# Altium footprint library Arriquitaun.PcbLib: 24 footprints (part 2 of 2)
Each footprint in its own frame and in the unit in brackets; x right, y up, seen from the top. Pads: shape width x height; smd on the part's side, far side on the other; paste and mask are expansions set on the pad; w line width, h text height; cw(c..) or ccw(c..) is an arc to the next point about the centre after c.
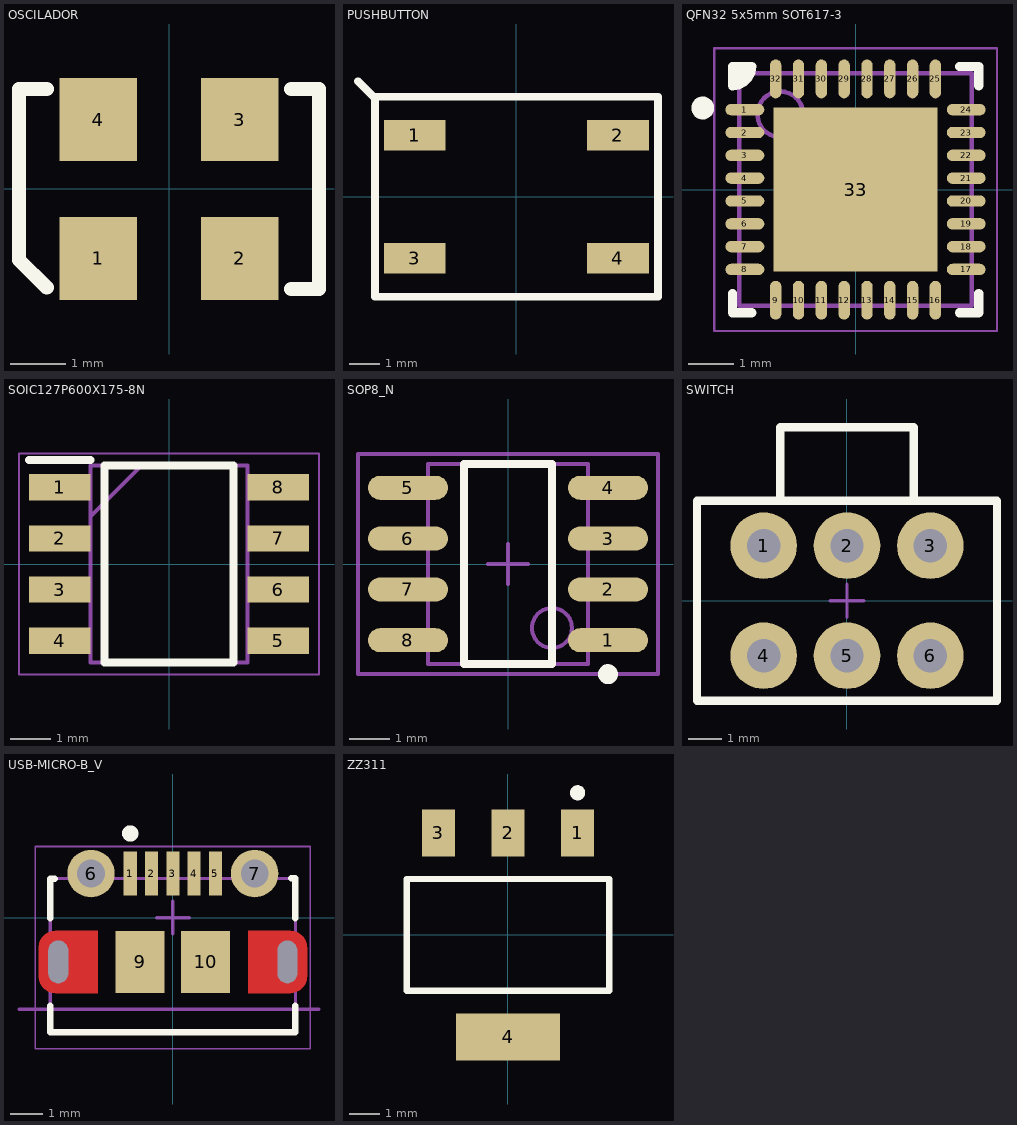
[diagram p1: the footprints below, top view; thin cyan lines are the x and y axes]

## OSCILADOR [mm]
height 1.5
pads (4):
  rect 1.4x1.5 smd mask+0.001: 1(-1.275,-1.25) 2(1.275,-1.25) 3(1.275,1.25) 4(-1.275,1.25)
Top Overlay:
  lines w0.254: -2.2,-1.775 -2.7,-1.275 -2.7,1.8 -2.2,1.8 ; 2.2,-1.8 2.7,-1.8 2.7,1.8 2.2,1.8

## PUSHBUTTON [mm]
height 3
pads (4):
  rect 2x1 smd: 1(-3.3,2) 2(3.3,2) 3(-3.3,-2) 4(3.3,-2)
Top Overlay:
  lines w0.254: -5.15,3.75 -4.6,3.2 -4.6,-3.25 4.6,-3.25 4.6,3.25 -4.6,3.25
3D body: height 5, standoff 3, extent -1.984,-1.996 2,1.996
3D body: height 3, standoff 0, extent -3.3,-3.25 3.3,3.25

## QFN32 5x5mm SOT617-3 [mm] "HVQFN, 32-Leads, Body 5.00x5.00mm, Pitch 0.50mm, Thermal Pad 3.60x3.60mm, IPC Medium Density"
height 0.85
pads (33):
  oval 0.85x0.25 smd: 1(-2.425,1.75) 2(-2.425,1.25) 3(-2.425,0.75) 4(-2.425,0.25) 5(-2.425,-0.25) 6(-2.425,-0.75) 7(-2.425,-1.25) 8(-2.425,-1.75) 17(2.425,-1.75) 18(2.425,-1.25) 19(2.425,-0.75) 20(2.425,-0.25) 21(2.425,0.25) 22(2.425,0.75) 23(2.425,1.25) 24(2.425,1.75)
  oval 0.25x0.85 smd: 9(-1.75,-2.425) 10(-1.25,-2.425) 11(-0.75,-2.425) 12(-0.25,-2.425) 13(0.25,-2.425) 14(0.75,-2.425) 15(1.25,-2.425) 16(1.75,-2.425) 25(1.75,2.425) 26(1.25,2.425) 27(0.75,2.425) 28(0.25,2.425) 29(-0.25,2.425) 30(-0.75,2.425) 31(-1.25,2.425) 32(-1.75,2.425)
  rect 3.6x3.6 smd: 33(0,0)
Top Overlay:
  circle w0.25: c-3.35,1.788 r0.125
  region: -2.7,2.7 -2.275,2.7 -2.275,2.551 -2.551,2.275 -2.7,2.275
  lines w0.2: -2.7,-2.275 -2.7,-2.7 -2.275,-2.7 ; 2.275,-2.7 2.7,-2.7 2.7,-2.275 ; 2.275,2.7 2.7,2.7 2.7,2.275 ; -2.7,2.275 ccw(c-2.7,2.7) -2.275,2.7 -2.7,2.7 -2.7,2.275
Mechanical 13:
  circle w0.1: c-1.65,1.65 r0.5
  lines w0.1: -2.55,-2.55 -2.55,2.55 2.55,2.55 2.55,-2.55 -2.55,-2.55
Mechanical 15:
  lines w0.05: -3.1,-3.1 -3.1,3.1 3.1,3.1 3.1,-3.1 -3.1,-3.1
  lines w0.1: -0.5,0 0.5,0 ; 0,-0.5 0,0.5
3D body: height 0.85, standoff 0, extent -2.55,-2.55 2.55,2.55

## SOIC127P600X175-8N [mm]
pads (8):
  rect 1.525x0.65 smd: 1(-2.712,1.905) 2(-2.712,0.635) 3(-2.712,-0.635) 4(-2.712,-1.905) 5(2.712,-1.905) 6(2.712,-0.635) 7(2.712,0.635) 8(2.712,1.905)
Top Overlay:
  lines w0.2: -3.475,2.58 -1.95,2.58 ; -1.6,-2.45 -1.6,2.45 1.6,2.45 1.6,-2.45 -1.6,-2.45
Mechanical 13:
  lines w0.1: -1.95,1.18 -0.68,2.45 ; -1.95,-2.45 -1.95,2.45 1.95,2.45 1.95,-2.45 -1.95,-2.45
Mechanical 15:
  lines w0.05: -3.725,-2.75 -3.725,2.75 3.725,2.75 3.725,-2.75 -3.725,-2.75
3D body "NE555DR.stp": height 1.75, standoff 0, extent -3,-2.45 3,2.45

## SOP8_N [mm] "SOIC, 8-Leads, Body 4.9x3.9mm, Pitch 1.27mm, IPC Medium Density"
height 1.75
pads (8):
  oval 2x0.6 smd: 1(2.5,-1.905) 2(2.5,-0.635) 3(2.5,0.635) 4(2.5,1.905) 5(-2.5,1.905) 6(-2.5,0.635) 7(-2.5,-0.635) 8(-2.5,-1.905)
Top Overlay:
  circle w0.25: c2.5,-2.755 r0.125
  lines w0.2: -1.1,-2.5 -1.1,2.5 1.1,2.5 1.1,-2.5 -1.1,-2.5
Mechanical 13:
  circle w0.1: c1.1,-1.6 r0.5
  lines w0.1: -2,-2.5 -2,2.5 2,2.5 2,-2.5 -2,-2.5
Mechanical 15:
  lines w0.1: -0.5,0 0.5,0 ; 0,-0.5 0,0.5 ; -3.75,-2.75 -3.75,2.75 3.75,2.75 3.75,-2.75 -3.75,-2.75
3D body: height 1.75, standoff 0, extent -2,-2.5 2,2.5

## SWITCH [mm]
pads (6):
  round 2 hole 1: 1(-2.5,1.65) 2(0,1.65) 3(2.5,1.65) 4(-2.5,-1.65) 5(0,-1.65) 6(2.5,-1.65)
Top Overlay:
  lines w0.254: -2,3 -2,5.2 2,5.2 2,3 ; -4.5,-3 4.5,-3 4.5,3 -4.5,3 -4.5,-3
Mechanical 15:
  lines w0.1: -0.5,0 0.5,0 ; 0,-0.5 0,0.5
3D body: height 3, standoff 1.5, extent -1.8,3 -0.3,5
3D body: height 3.5, standoff 0, extent -4.5,-3 4.5,3

## USB-MICRO-B_V [mm] "USB, MICRO B, Body 7.491x4.695 mm, Pitch 0.65 mm"
height 2.673
pads (11):
  rect 0.4x1.35 smd: 1(-1.3,1.35) 2(-0.65,1.35) 3(0,1.35) 4(0.65,1.35) 5(1.3,1.35)
  round 1.45 hole 0.85: 6(-2.5,1.35) 7(2.5,1.35)
  rrect50% 0x0 hole 0.6 slot 1.3 at 90 deg: 8(-3.5,-1.35) 11(3.5,-1.35)
  rect 1.5x1.9 smd: 9(-1,-1.35) 10(1,-1.35)
Top Layer:
  region: -3.6,-1.8 -3.6,-0.9 -4.1,-0.9 -4.1,-1.8
  region: -2.3,-2.3 -2.3,-0.4 -3.6,-0.4 -3.6,-2.3
  region: 3.6,-0.9 3.6,-1.8 4.1,-1.8 4.1,-0.9
  region: 2.3,-0.4 2.3,-2.3 3.6,-2.3 3.6,-0.4
  lines w0.5: -3.85,-1.8 ccw(c-3.6,-1.8) -3.432,-1.985 ccw(c-3.6,-1.8) -3.85,-1.8 ; -3.85,-0.9 ccw(c-3.6,-0.9) -3.378,-1.015 ccw(c-3.6,-0.9) -3.85,-0.9 ; 3.35,-1.8 ccw(c3.6,-1.8) 3.432,-1.985 ccw(c3.6,-1.8) 3.35,-1.8 ; 3.35,-0.9 ccw(c3.6,-0.9) 3.473,-1.115 ccw(c3.6,-0.9) 3.5,-1.129 ccw(c3.6,-0.9) 3.5,-0.671 ccw(c3.6,-0.9) 3.35,-0.889 ccw(c3.6,-0.9) 3.35,-0.9
Top Overlay:
  circle w0.25: c-1.3,2.575 r0.125
  lines w0.2: -3.745,-2.688 -3.745,-3.5 3.745,-3.5 3.745,-2.688 ; -3.745,-0.012 -3.745,1.195 -3.614,1.195 ; 3.615,1.2 3.745,1.2 3.745,-0.012
Mechanical 1:
  lines w0.1: -4.7,-2.8 4.465,-2.8
Mechanical 13:
  lines w0.1: -3.75,1.2 3.745,1.2 3.745,-3.5 -3.745,-3.5 -3.745,1.195
Mechanical 15:
  lines w0.05: -4.2,-4 -4.2,2.175 4.2,2.175 4.2,-4 -4.2,-4
  lines w0.1: -0.5,0 0.5,0 ; 0,-0.5 0,0.5
3D body "1050170001.stp": height 2.67, standoff -0.63, extent -4.1,-3.9 4.1,1.5

## ZZ311 [mm] "SOT-223/SC-73; 4 Leads; Body 6.7 x 7.3 mm, inc. leads (LxW max)"
height 1.8
pads (4):
  rect 1.1x1.55 smd: 1(2.3,3.375) 2(0,3.375) 3(-2.3,3.375)
  rect 3.45x1.55 smd: 4(0,-3.375)
Top Overlay:
  circle w0.25: c2.3,4.7 r0.125
  lines w0.2: -3.35,-1.85 -3.35,1.85 3.35,1.85 3.35,-1.85 -3.35,-1.85